# EAGLE library part 2520-6002-* (library 3M)
20-Pin Shrouded Header 2500 Series 20-Pin Four-Wall Header .100" x .100" Spacing Low Profile Straight Through-Hole For .062" thick board Vertical UG = 15µ [0.38µm] Gold with 200µ [5.08µm] 60:40 Tin-Lead Solder Tails (RIA E3 & C2 apply) UB = 30µ [0.76µm] Gold with 200µ [5.05µm] 60:40 Tin-Lead Solder Tails (RIA E3 & C2 apply) RB = 30µ [0.76µm] Gold with 200µ [5.08µm] Matte Tin Solder Tails (RIA E1 & C1 apply) From 3M document TS-0770-E, dated March 24, 2008 http://www.3m.com/interconnects/
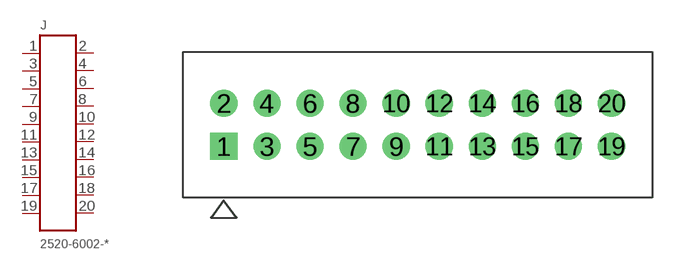
[diagram p1: symbol with the pads of 20POS; footprint 20POS]

Designator prefix J

## 2520-6002-RB  [20POS]
1  P$1  pas
2  P$2  pas
3  P$3  pas
4  P$4  pas
5  P$5  pas
6  P$6  pas
7  P$7  pas
8  P$8  pas
9  P$9  pas
10  P$10  pas
11  P$11  pas
12  P$12  pas
13  P$13  pas
14  P$14  pas
15  P$15  pas
16  P$16  pas
17  P$17  pas
18  P$18  pas
19  P$19  pas
20  P$20  pas

## 2520-6002-UB  [20POS]
Pads as for 20POS

## 2520-6002-UG  [20POS]
Pads as for 20POS

## Footprint 20POS (pad centres in mm)
drill 1.067 square: 1 -11.43,-1.27
drill 1.067 round: 2 -11.43,1.27; 3 -8.89,-1.27; 4 -8.89,1.27; 5 -6.35,-1.27; 6 -6.35,1.27; 7 -3.81,-1.27; 8 -3.81,1.27; 9 -1.27,-1.27; 10 -1.27,1.27; 11 1.27,-1.27; 12 1.27,1.27; 13 3.81,-1.27; 14 3.81,1.27; 15 6.35,-1.27; 16 6.35,1.27; 17 8.89,-1.27; 18 8.89,1.27; 19 11.43,-1.27; 20 11.43,1.27